# EAGLE library part NRF24L01+ (library Nordic)
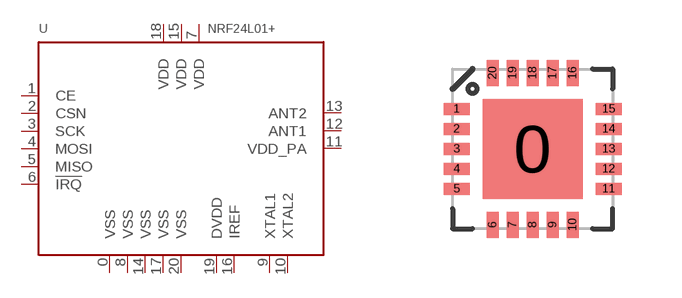
[diagram p0: symbol with the pads of QFN-20; footprint QFN-20]

Designator prefix U

## NRF24L01+  [QFN-20]
0  VSS
1  CE
2  CSN
3  SCK
4  MOSI
5  MISO
6  !IRQ
7  VDD
8  VSS
9  XTAL1
10  XTAL2
11  VDD_PA
12  ANT1
13  ANT2
14  VSS
15  VDD
16  IREF
17  VSS
18  VDD
19  DVDD
20  VSS

## Footprint QFN-20 (pad centres in mm)
smd 2.5 x 2.5: 0 0,0
smd 0.65 x 0.3: 1 -1.9,1; 2 -1.9,0.5; 3 -1.9,0; 4 -1.9,-0.5; 5 -1.9,-1; 11 1.9,-1; 12 1.9,-0.5; 13 1.9,0; 14 1.9,0.5; 15 1.9,1
smd 0.3 x 0.65: 6 -1,-1.9; 7 -0.5,-1.9; 8 0,-1.9; 9 0.5,-1.9; 10 1,-1.9; 16 1,1.9; 17 0.5,1.9; 18 0,1.9; 19 -0.5,1.9; 20 -1,1.9